# EAGLE library part AD8367 (library analog-devices_custom)
500 MHz, Linear-in-dB VGA with AGC Detector Source: http://www.analog.com/UploadedFiles/Data_Sheets/477808511AD8367_a.pdf
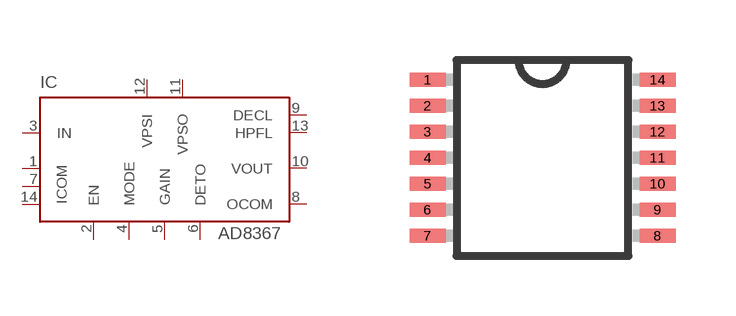
[diagram p47: symbol with the pads of TSSOP14; footprint TSSOP14]

Designator prefix IC

## AD8367RU (MF: ALTERA CORPORATION; MPN: AD8367ARUZ-RL7; OC_FARNELL: 1424121; OC_NEWARK: 59K6673)  [TSSOP14]
1  ICOM  pwr
2  EN  in
3  IN  in
4  MODE  in
5  GAIN  in
6  DETO  out
7  ICOM  pwr
8  OCOM  pwr
9  DECL  out
10  VOUT  out
11  VPSO  pwr
12  VPSI  pwr
13  HPFL  in
14  ICOM  pwr

## Footprint TSSOP14 (pad centres in mm)
14-Lead Thin Shrink Small Outline Package [TSSOP] Source: Analog Devices .. 780914713ADD8704_0.pdf
smd 0.9 x 0.35: 1 -2.875,1.95; 2 -2.875,1.3; 3 -2.875,0.65; 4 -2.875,0; 5 -2.875,-0.65; 6 -2.875,-1.3; 7 -2.875,-1.95; 8 2.875,-1.95; 9 2.875,-1.3; 10 2.875,-0.65; 11 2.875,0; 12 2.875,0.65; 13 2.875,1.3; 14 2.875,1.95